# EAGLE library part SMD-BLACK-FEMALE-HEADER(10P-2.0) (library Seeed-OPL-Connector)
320030097
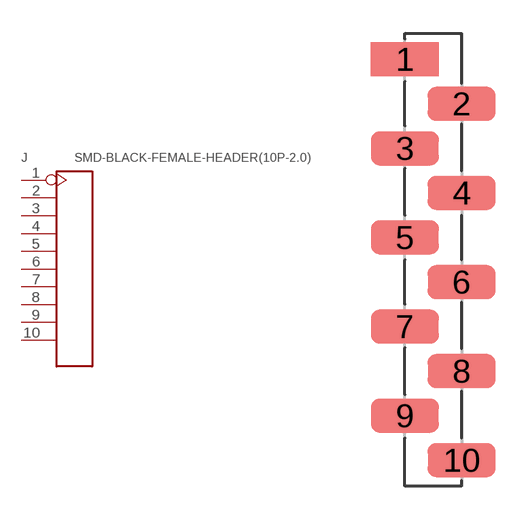
[diagram p69: symbol with the pads of HW10-2.0; footprint HW10-2.0]

Designator prefix J

## SMD-BLACK-FEMALE-HEADER(10P-2.0)-2-SMD (VALUE: 10P-SMD-2.0)  [HW10-2.0]
1  1
2  2
3  3
4  4
5  5
6  6
7  7
8  8
9  9
10  10

## Footprint HW10-2.0 (pad centres in mm)
smd 3.048 x 1.524: 1 -1.27,9; 2 1.27,7; 3 -1.27,5; 4 1.27,3; 5 -1.27,1; 6 1.27,-1; 7 -1.27,-3; 8 1.27,-5; 9 -1.27,-7; 10 1.27,-9